# Altium schematic symbol library Test_Components.SchLib: 4 symbols
Pins are listed as number, name and electrical type; pins without a type are passive.

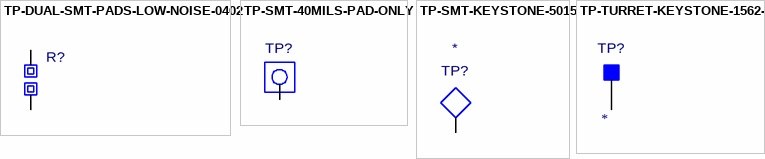
[diagram p0: symbols TP-DUAL-SMT-PADS-LOW-NOISE-0402 to TP-TURRET-KEYSTONE-1562-2]

## TP-DUAL-SMT-PADS-LOW-NOISE-0402
designator R?  (value not drawn)
TEST POINT, DUAL SMT PADS, LOW NOISE, 0402; Value: Test Pads, 0402; Temp: 175C; MFG: N/A; MFGPN: N/A; Parameter 1: *
footprint 0402C
pins: 1, 2

## TP-SMT-40MILS-PAD-ONLY
designator TP?  (value not drawn)
Test Point, SMT, 40mil Pad; MFG: NA; Notes: No-pop this is a pad for Test Probe only; Temp: 150C; MFGPN: NA; Pcb_Label: *
footprint SMD-TEST-PAD-40MIL (SMD Test Pad, 40 mils)
pins: 1

## TP-SMT-KEYSTONE-5015
designator TP?  (value not drawn)
Test Point, Mini, SMT; Checked: JER 9-17-08; MFGPN: 5015; QPN: 140-000011-0001; Temp: 150C; MFG: Keystone; PCB_Label: *
footprint 1206_TP
pins: 1

## TP-TURRET-KEYSTONE-1562-2
designator TP?  (value not drawn)
Terminal, Turret, Hollow, 0.084in; Checked: JER 9-18-08; MFGPN: 1562-2; QPN: 140-000010-0001; Geometry.Height: 0.160"; Temp: 150C; MFG: Keystone; Pcb_Label: *
footprint KEYSTONE-TEST-TURRET-1562-2
pins: 1